# EAGLE library part SUPERTEX-HV850 (library LITTLEBITS140915)
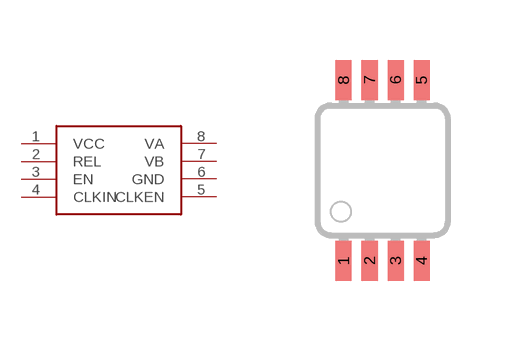
[diagram p6: symbol with the pads of MSOP08; footprint MSOP08]

Designator prefix -

## SUPERTEX-HV850  [MSOP08]
1  VCC
2  REL
3  EN
4  CLKIN
5  CLKEN
6  GND
7  VB
8  VA

## Footprint MSOP08 (pad centres in mm)
smd 0.4 x 1: 1 0.294,-0.993; 2 0.944,-0.993; 3 1.594,-0.993; 4 2.244,-0.993; 5 2.244,3.532; 6 1.594,3.532; 7 0.944,3.532; 8 0.294,3.532